# Altium schematic symbol library CAP-SM-0402-NP0-1.5pF.Schlib: 1 symbol
Pins are listed as number, name and electrical type; pins without a type are passive.

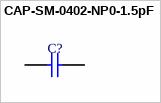
[diagram p0: symbol CAP-SM-0402-NP0-1.5pF]

## CAP-SM-0402-NP0-1.5pF
designator C?, comment Cap cer  (value not drawn)
CAP SM 0402 NP0 1.5pF ± 0.1pF
pins: 1, 2